# Altium schematic symbol library 5G_Module.SchLib: 1 symbol
Pins are listed as number, name and electrical type; pins without a type are passive.

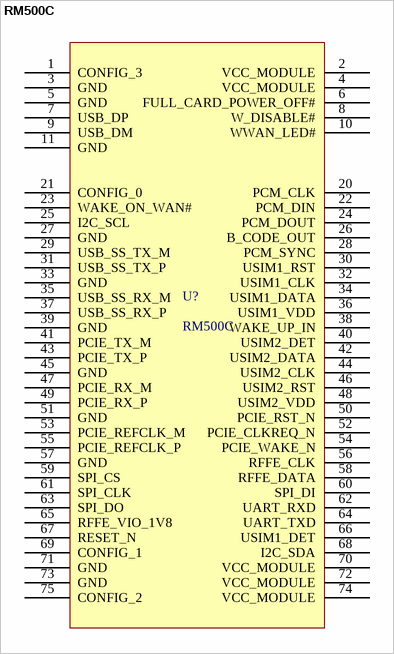
[diagram p0: symbol RM500C]

## RM500C
designator U?
id: U?; 注释: RM500C-CN
pins: 1 CONFIG_3, 2 VCC_MODULE, 3 GND, 4 VCC_MODULE, 5 GND, 6 FULL_CARD_POWER_OFF#, 7 USB_DP, 8 W_DISABLE#, 9 USB_DM, 10 WWAN_LED#, 11 GND, 20 PCM_CLK, 21 CONFIG_0, 22 PCM_DIN, 23 WAKE_ON_WAN#, 24 PCM_DOUT, 25 I2C_SCL, 26 B_CODE_OUT, 27 GND, 28 PCM_SYNC, 29 USB_SS_TX_M, 30 USIM1_RST, 31 USB_SS_TX_P, 32 USIM1_CLK, 33 GND, 34 USIM1_DATA, 35 USB_SS_RX_M, 36 USIM1_VDD, 37 USB_SS_RX_P, 38 WAKE_UP_IN, 39 GND, 40 USIM2_DET, 41 PCIE_TX_M, 42 USIM2_DATA, 43 PCIE_TX_P, 44 USIM2_CLK, 45 GND, 46 USIM2_RST, 47 PCIE_RX_M, 48 USIM2_VDD, 49 PCIE_RX_P, 50 PCIE_RST_N, 51 GND, 52 PCIE_CLKREQ_N, 53 PCIE_REFCLK_M, 54 PCIE_WAKE_N, 55 PCIE_REFCLK_P, 56 RFFE_CLK, 57 GND, 58 RFFE_DATA, 59 SPI_CS, 60 SPI_DI, 61 SPI_CLK, 62 UART_RXD, 63 SPI_DO, 64 UART_TXD, 65 RFFE_VIO_1V8, 66 USIM1_DET, 67 RESET_N, 68 I2C_SDA, 69 CONFIG_1, 70 VCC_MODULE, 71 GND, 72 VCC_MODULE, 73 GND, 74 VCC_MODULE, 75 CONFIG_2